# EAGLE library part 1422006-4 (library Relays)
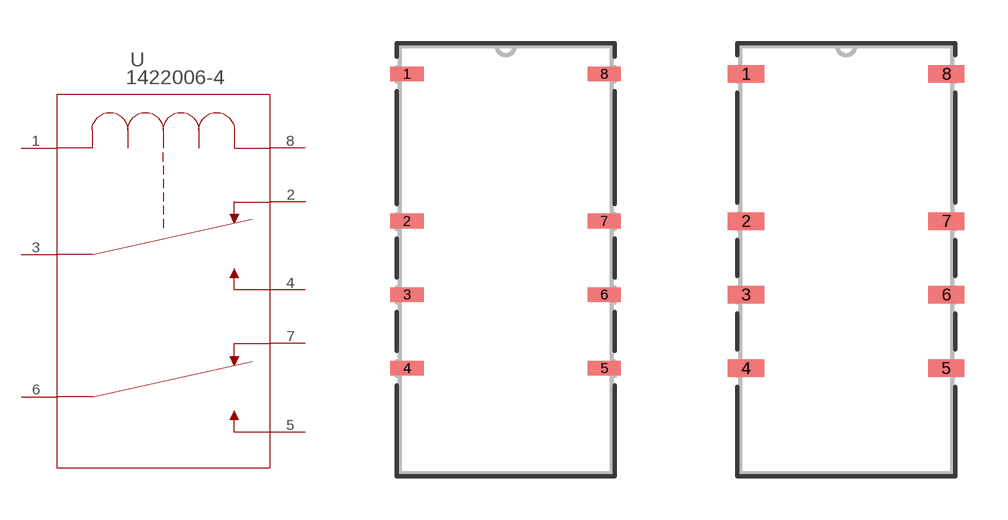
[diagram p80: symbol with the pads of RELAY_1422006-4; footprints RELAY_1422006-4, RELAY_1422006-4-M]

Designator prefix U

## 1422006-4 (BUILT_BY: EMA_UL_Team; CATEGORY: Signal Relays; COPYRIGHT: Copyright (C) 2016 Accelerated Designs. All rights reserved; DESCRIPTION: V23079G2003X074; MANUFACTURER_PART_NUMBER: 1422006-4; PART_STATUS: active; SERIES: Axicom P2 Signal Relay; VENDOR: TE Connectivity)  [RELAY_1422006-4]
1  1  pas
2  5  pas
3  3  pas
4  4  pas
5  7  pas
6  6  pas
7  8  pas
8  2  pas

## 1422006-4RELAY_1422006-4-M (BUILT_BY: EMA_UL_Team; CATEGORY: Signal Relays; COPYRIGHT: Copyright (C) 2016 Accelerated Designs. All rights reserved; DESCRIPTION: V23079G2003X074; MANUFACTURER_PART_NUMBER: 1422006-4; PART_STATUS: active; SERIES: Axicom P2 Signal Relay; VENDOR: TE Connectivity)  [RELAY_1422006-4-M]
Pads as for RELAY_1422006-4

## 1422006-4RELAY_1422006-4-L (BUILT_BY: EMA_UL_Team; CATEGORY: Signal Relays; COPYRIGHT: Copyright (C) 2016 Accelerated Designs. All rights reserved; DESCRIPTION: V23079G2003X074; MANUFACTURER_PART_NUMBER: 1422006-4; PART_STATUS: active; SERIES: Axicom P2 Signal Relay; VENDOR: TE Connectivity)  [RELAY_1422006-4-L]
Pads as for RELAY_1422006-4

## Footprint RELAY_1422006-4 (pad centres in mm)
smd 1.143 x 0.508: 1 -3.404,6.413; 2 -3.404,1.333; 3 -3.404,-1.206; 4 -3.404,-3.747; 5 3.404,-3.747; 6 3.404,-1.206; 7 3.404,1.333; 8 3.404,6.413

## Footprint RELAY_1422006-4-M (pad centres in mm)
smd 1.245 x 0.61: 1 -3.454,6.413; 2 -3.454,1.333; 3 -3.454,-1.206; 4 -3.454,-3.747; 5 3.454,-3.747; 6 3.454,-1.206; 7 3.454,1.333; 8 3.454,6.413

## Footprint RELAY_1422006-4-L (pad centres in mm)
smd 1.041 x 0.508: 1 -3.353,6.413; 2 -3.353,1.333; 3 -3.353,-1.206; 4 -3.353,-3.747; 5 3.353,-3.747; 6 3.353,-1.206; 7 3.353,1.333; 8 3.353,6.413